# Altium schematic symbol library M_CON8-DIN-PANEL.SchLib: 1 symbol
Pins are listed as number, name and electrical type; pins without a type are passive.

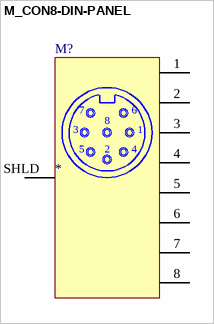
[diagram p0: symbol M_CON8-DIN-PANEL]

## M_CON8-DIN-PANEL
designator M?
pins: 1, 2, 3, 4, 5, 6, 7, 8, SHLD